# Altium footprint library 110-00315-D_B1-DevKit.PcbLib: 70 footprints (part 1 of 5)
Each footprint in its own frame and in the unit in brackets; x right, y up, seen from the top. Pads: shape width x height; smd on the part's side, far side on the other; paste and mask are expansions set on the pad; w line width, h text height; cw(c..) or ccw(c..) is an arc to the next point about the centre after c.
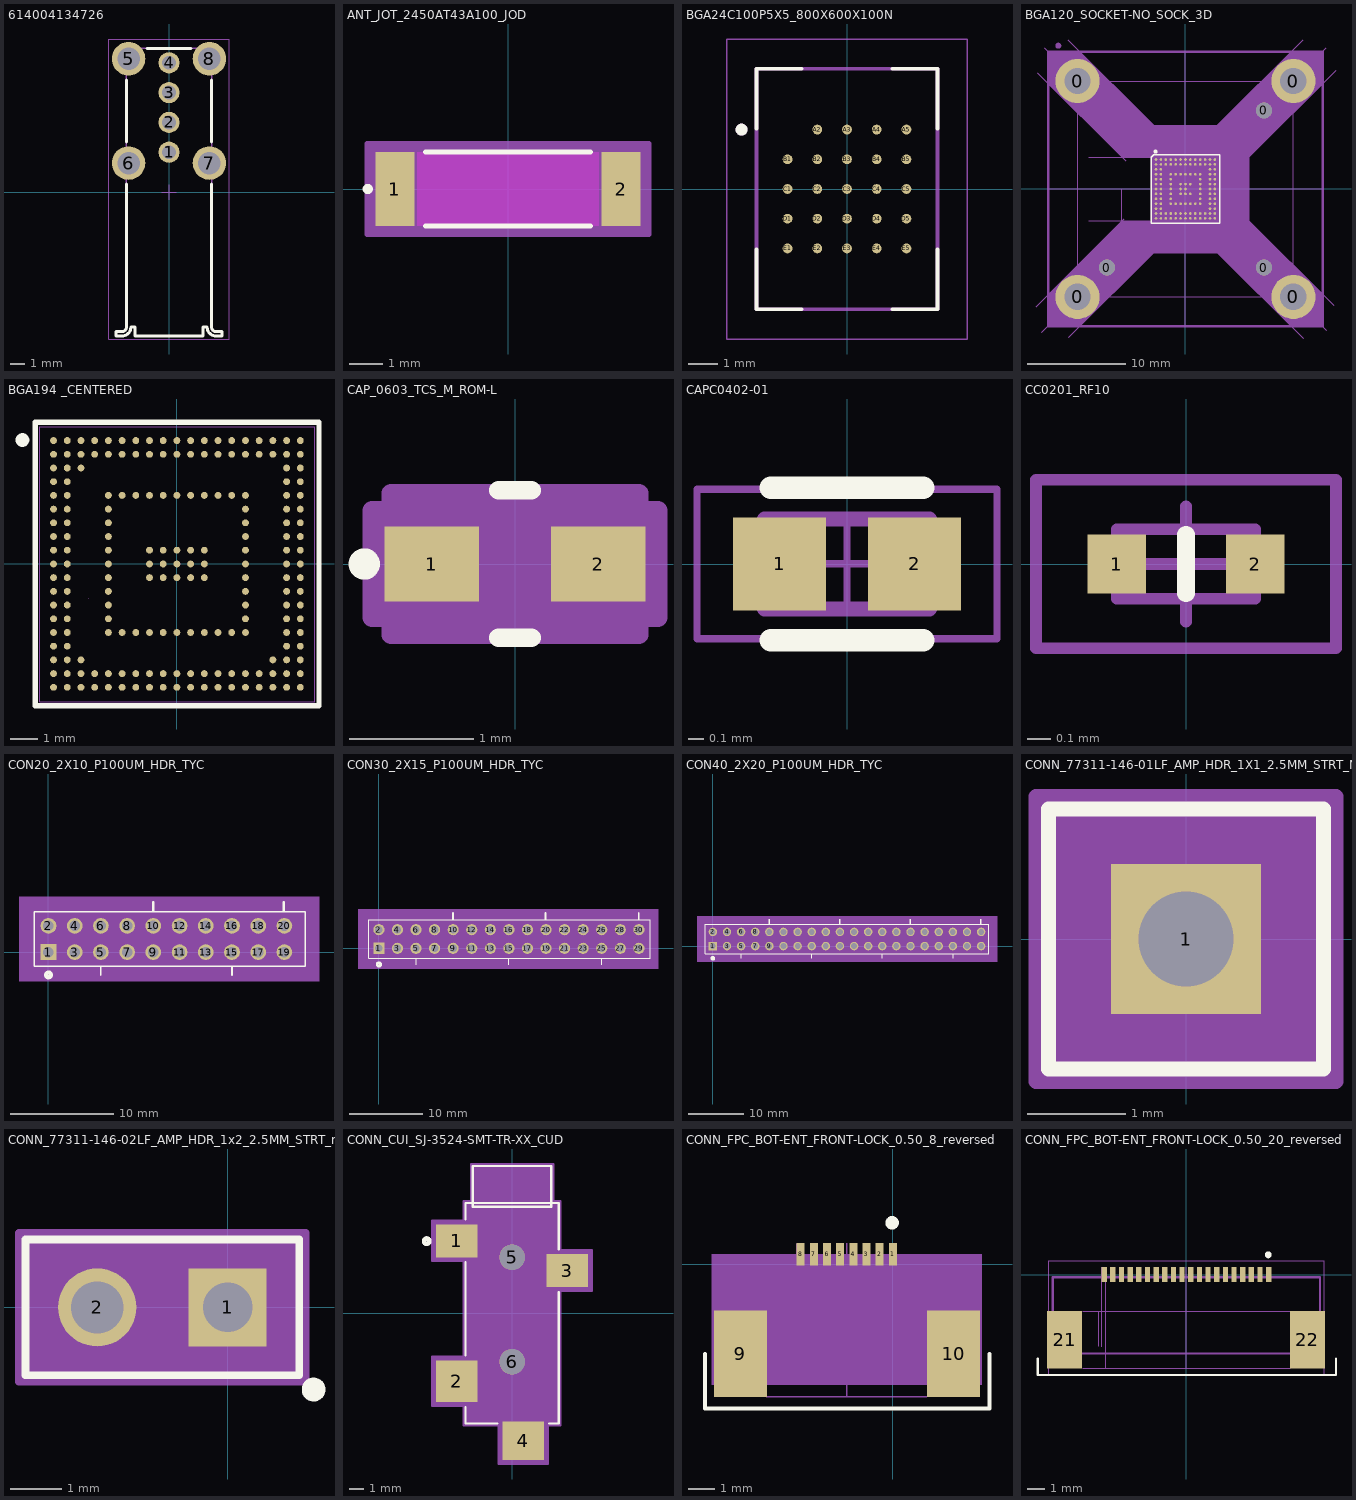
[diagram p0: the footprints below, top view; thin cyan lines are the x and y axes]

## 614004134726 [mm] "USB 2.0 Type A Up Right"
height 14.5
pads (8):
  round 1.42 hole 0.92: 1(0,2.68) 2(0,4.68) 3(0,6.68) 4(0,8.68)
  round 2.25 hole 1.5: 5(-2.71,8.95) 6(-2.71,1.95) 7(2.71,1.95) 8(2.71,8.95)
Top Overlay:
  lines w0.2: -2.86,0.54 -2.86,-9.06 cw(c-3.15,-9.06) -3.15,-9.35 -3.55,-9.35 -3.55,-9.65 -3.15,-9.65 ccw(c-3.15,-9.06) -2.56,-9.06 -2.27,-9.06 -2.27,-9.65 2.27,-9.65 2.27,-9.06 2.56,-9.06 ccw(c3.15,-9.06) 3.15,-9.65 3.55,-9.65 3.55,-9.35 3.15,-9.35 cw(c3.15,-9.06) 2.86,-9.06 2.86,0.54 ; -2.86,3.36 -2.86,7.54 ; -1.46,9.65 1.49,9.65 ; 2.86,3.36 2.86,7.54
Mechanical 11:
  lines w0.1: -3.55,-9.65 -3.15,-9.65 ccw(c-3.15,-9.06) -2.56,-9.06 -2.27,-9.06 -2.27,-9.65 2.27,-9.65 2.27,-9.06 2.56,-9.06 ccw(c3.15,-9.06) 3.15,-9.65 3.55,-9.65 3.55,-9.35 3.15,-9.35 cw(c3.15,-9.06) 2.86,-9.06 2.86,9.65 -2.86,9.65 -2.86,-9.06 cw(c-3.15,-9.06) -3.15,-9.35 -3.55,-9.35 -3.55,-9.65
  text ".Designator" at -1.75,-0.75 h1.5
Mechanical 13:
  lines w0.1: -3.55,-9.65 -3.55,-9.35 -3.15,-9.35 ccw(c-3.15,-9.06) -2.86,-9.06 -2.86,9.65 2.86,9.65 2.86,-9.06 ccw(c3.15,-9.06) 3.15,-9.35 3.55,-9.35 3.55,-9.65 3.15,-9.65 cw(c3.15,-9.06) 2.56,-9.06 2.27,-9.06 2.27,-9.65 -2.27,-9.65 -2.27,-9.06 -2.56,-9.06 cw(c-3.15,-9.06) -3.15,-9.65 -3.55,-9.65
Mechanical 15:
  lines w0.05: -0.5,0 0.5,0 ; 0,-0.5 0,0.5 ; -4.035,-9.85 4.035,-9.85 4.035,10.275 -4.035,10.275 -4.035,-9.85
3D body "614004134726.stp": height 14.49, standoff -3.82, extent -3.55,-9.65 3.55,9.65

## ANT_JOT_2450AT43A100_JOD [mil]
pads (2):
  rect 46x87 smd paste+0 mask+4: 1(-133,0) 2(133,0)
Top Layer keep-out:
  region: -107,-41.5 -107,41.5 107,41.5 107,-41.5
Top Overlay:
  circle w6: c-165,0 r3
  lines w6: -96.9,-43.5 96.9,-43.5 ; -96.9,43.5 96.9,43.5
Keep-Out Layer:
  region: -107,-43.5 -107,43.5 107,43.5 107,-43.5
Mechanical 13:
  circle w0: c-165,0 r3
  lines w1: -142,-43.5 -142,43.5 ; -142,-43.5 -110,-43.5 -110,43.5 -142,43.5 ; -142,-43.5 142,-43.5 ; -142,-43.5 -142,43.5 ; -142,43.5 142,43.5 ; 142,-43.5 110,-43.5 110,43.5 142,43.5 ; 142,-43.5 142,43.5 ; 142,-43.5 142,43.5
Mechanical 15:
  region: 166,-53.5 -166,-53.5 -166,53.5 166,53.5
  lines w6: -166,-53.5 -166,53.5 166,53.5 166,-53.5 -166,-53.5
3D body "2450AT43A100E.step": height 51.18, standoff 0, extent -137.8,-39.37 137.8,39.37

## BGA24C100P5X5_800X600X100N [mm]
height 8.58
pads (24):
  round 0.33 smd: A2(-1,2) A3(0,2) A4(1,2) A5(2,2) B1(-2,1) B2(-1,1) B3(0,1) B4(1,1) B5(2,1) C1(-2,0) C2(-1,0) C3(0,0) C4(1,0) C5(2,0) D1(-2,-1) D2(-1,-1) D3(0,-1) D4(1,-1) D5(2,-1) E1(-2,-2) E2(-1,-2) E3(0,-2) E4(1,-2) E5(2,-2)
Top Overlay:
  circle w0.2: c-3.55,2 r0.1
  lines w0.127: -3.05,-2.025 -3.05,-4.05 -1.525,-4.05 ; -3.05,2.025 -3.05,4.05 -1.525,4.05 ; 1.525,-4.05 3.05,-4.05 3.05,-2.025 ; 1.525,4.05 3.05,4.05 3.05,2.025
Mechanical 13:
  circle w0.2: c-3.55,2 r0.1
  lines w0.127: -3.05,-4.05 3.05,-4.05 3.05,4.05 -3.05,4.05 -3.05,-4.05
Mechanical 15:
  lines w0.05: -4.05,-5.05 4.05,-5.05 4.05,5.05 -4.05,5.05 -4.05,-5.05
3D body "step_temp.STEP": height 1, standoff 0, extent -3,-4 3,4

## BGA120_SOCKET-NO_SOCK_3D [mil] "Alif E1 / B1 BGA120 with Socket"
pads (127):
  round 177 hole 106: 0(-433,-433) 0(-433,433) 0(433,-433) 0(433,433)
  round 63 hole 63 unplated paste-99999 mask+4: 0(-315,-315) 0(315,-315) 0(315,315)
  round 10.5 smd mask+4: A1(-118.11,118.11) A2(-98.42,118.11) A3(-78.74,118.11) A4(-59.05,118.11) A5(-39.37,118.11) A6(-19.68,118.11) A7(0,118.11) A8(19.68,118.11) A9(39.37,118.11) A10(59.05,118.11) A11(78.74,118.11) A12(98.42,118.11) A13(118.11,118.11) B1(-118.11,98.42) B2(-98.42,98.42) B3(-78.74,98.42) B4(-59.05,98.42) B5(-39.37,98.42) B6(-19.68,98.42) B7(0,98.42) B8(19.68,98.42) B9(39.37,98.42) B10(59.05,98.42) B11(78.74,98.42) B12(98.42,98.42) B13(118.11,98.42) C1(-118.11,78.74) C2(-98.42,78.74) C12(98.42,78.74) C13(118.11,78.74) D1(-118.11,59.05) D2(-98.42,59.05) D4(-59.05,59.05) D5(-39.37,59.05) D6(-19.68,59.05) D7(0,59.05) D8(19.68,59.05) D9(39.37,59.05) D10(59.05,59.05) D12(98.42,59.05) D13(118.11,59.05) E1(-118.11,39.37) E2(-98.42,39.37) E4(-59.05,39.37) E10(59.05,39.37) E12(98.42,39.37) E13(118.11,39.37) F1(-118.11,19.68) F2(-98.42,19.68) F4(-59.05,19.68) F6(-19.68,19.68) F7(0,19.68) F8(19.68,19.68) F10(59.05,19.68) F12(98.42,19.68) F13(118.11,19.68) G1(-118.11,0) G2(-98.42,0) G4(-59.05,0) G6(-19.68,0) G7(0,0) G10(59.05,0) G12(98.42,0) G13(118.11,0) H1(-118.11,-19.68) H2(-98.42,-19.68) H4(-59.05,-19.68) H6(-19.68,-19.68) H7(0,-19.68) H8(19.68,-19.68) H10(59.05,-19.68) H12(98.42,-19.68) H13(118.11,-19.68) J1(-118.11,-39.37) J2(-98.42,-39.37) J4(-59.05,-39.37) J10(59.05,-39.37) J12(98.42,-39.37) J13(118.11,-39.37) K1(-118.11,-59.05) K2(-98.42,-59.05) K4(-59.05,-59.05) K5(-39.37,-59.05) K6(-19.68,-59.05) K7(0,-59.05) K8(19.68,-59.05) K9(39.37,-59.05) K10(59.05,-59.05) K12(98.42,-59.05) K13(118.11,-59.05) L1(-118.11,-78.74) L2(-98.42,-78.74) L12(98.42,-78.74) L13(118.11,-78.74) M1(-118.11,-98.42) M2(-98.42,-98.42) M3(-78.74,-98.42) M4(-59.05,-98.42) M5(-39.37,-98.42) M6(-19.68,-98.42) M7(0,-98.42) M8(19.68,-98.42) M9(39.37,-98.42) M10(59.05,-98.42) M11(78.74,-98.42) M12(98.42,-98.42) M13(118.11,-98.42) N1(-118.11,-118.11) N2(-98.42,-118.11) N3(-78.74,-118.11) N4(-59.05,-118.11) N5(-39.37,-118.11) N6(-19.68,-118.11) N7(0,-118.11) N8(19.68,-118.11) N9(39.37,-118.11) N10(59.05,-118.11) N11(78.74,-118.11) N12(98.42,-118.11) N13(118.11,-118.11)
Top Overlay:
  lines w6: -137.79,-137.79 137.79,-137.79 137.79,137.79 -127.95,137.79 -137.79,127.95 -137.79,-137.79
  lines w12: -117.82,149.95 cw(c-120,150) -117.82,150.12
Mechanical 1:
  circle w12: c-510,574.6 r6.11
  region: 128.5,256.1 128.1,255.7 -128.1,255.7 -425.3,552.9 -427.3,550.9 -551.1,550.9 -551.1,423.6 -551.3,423.4 -550.7,423.4 -255.1,127.8 -137.6,127.8 -137.6,-128 -255.5,-128 -551.1,-423.6 -551.1,-550.7 -550.5,-551.3 -423.7,-551.3 -128.7,-256.3 128.7,-256.3 423.4,-551 423.4,-551.5 550,-551.5 551.2,-550.3 551.2,-423 255.6,-127.4 255.6,130 550.4,424.8 549.4,425.8 549.4,550 422.2,550
  lines w10: -551,-551 -551,551 551,551 551,-551 -551,-551
Top Assembly:
  lines w1: -551,0 0,0 ; -388,-128 -138,-128 -138,0 -138,128 -388,128 ; -256,-128 -256,0 ; -128,-256 0,-256 128,-256 ; -128,256 0,256 128,256 ; 0,-551.1 0,0 ; 0,-0.1 0,551 ; 256,-128 256,0 256,128 ; 551,0 0,0 ; -433,-433 0,-433 433,-433 433,0 433,433 0,433 -433,433 -433,0 -433,-433
  lines w2: -599.5,-472.2 -245.95,-118.65 ; -593.7,466.4 -240.15,112.85 ; -575.49,-575.69 0,0 ; -565.6,565.5 0,0 ; -496.03,-370.27 -433.1,-433.2 ; -471.2,598.6 -117.65,245.05 ; -467.3,-594.7 -113.75,-241.15 ; 118.1,245.4 471.65,598.95 ; 118.3,-245.6 471.85,-599.15 ; 143.26,269.33 206.2,206.4 ; 240.8,-113.4 594.35,-466.95 ; 250.3,122.9 603.85,476.45 ; 565.69,-565.69 0,0 ; 565.69,565.69 0,0
3D body: height 22.09, standoff 0, extent -130.05,-129.53 129.85,130.53
3D body: height 23, standoff 0, extent -123.6,110.9 -111.6,122.9

## BGA194 _CENTERED [mm]
pads (194):
  round 0.25 smd: A1(-4.501,4.501) A2(-4.001,4.501) A3(-3.501,4.501) A4(-3.001,4.501) A5(-2.501,4.501) A6(-2.001,4.501) A7(-1.501,4.501) A8(-1.001,4.501) A9(-0.501,4.501) A10(-0.001,4.501) A11(0.499,4.501) A12(0.999,4.501) A13(1.499,4.501) A14(1.999,4.501) A15(2.499,4.501) A16(2.999,4.501) A17(3.499,4.501) A18(3.999,4.501) A19(4.499,4.501) B1(-4.501,4.001) B2(-4.001,4.001) B3(-3.501,4.001) B4(-3.001,4.001) B5(-2.501,4.001) B6(-2.001,4.001) B7(-1.501,4.001) B8(-1.001,4.001) B9(-0.501,4.001) B10(-0.001,4.001) B11(0.499,4.001) B12(0.999,4.001) B13(1.499,4.001) B14(1.999,4.001) B15(2.499,4.001) B16(2.999,4.001) B17(3.499,4.001) B18(3.999,4.001) B19(4.499,4.001) C1(-4.501,3.501) C2(-4.001,3.501) C3(-3.501,3.501) C18(3.999,3.501) C19(4.499,3.501) D1(-4.501,3.001) D2(-4.001,3.001) D18(3.999,3.001) D19(4.499,3.001) E1(-4.501,2.501) E2(-4.001,2.501) E5(-2.501,2.501) E6(-2.001,2.501) E7(-1.501,2.501) E8(-1.001,2.501) E9(-0.501,2.501) E10(-0.001,2.501) E11(0.499,2.501) E12(0.999,2.501) E13(1.499,2.501) E14(1.999,2.501) E15(2.499,2.501) E18(3.999,2.501) E19(4.499,2.501) F1(-4.501,2.001) F2(-4.001,2.001) F5(-2.501,2.001) F15(2.499,2.001) F18(3.999,2.001) F19(4.499,2.001) G1(-4.501,1.501) G2(-4.001,1.501) G5(-2.501,1.501) G15(2.499,1.501) G18(3.999,1.501) G19(4.499,1.501) H1(-4.501,1.001) H2(-4.001,1.001) H5(-2.501,1.001) H15(2.499,1.001) H18(3.999,1.001) H19(4.499,1.001) J1(-4.501,0.501) J2(-4.001,0.501) J5(-2.501,0.501) J8(-1.001,0.501) J9(-0.501,0.501) J10(-0.001,0.501) J11(0.499,0.501) J12(0.999,0.501) J15(2.499,0.501) J18(3.999,0.501) J19(4.499,0.501) K1(-4.501,0.001) K2(-4.001,0.001) K5(-2.501,0.001) K8(-1.001,0.001) K9(-0.501,0.001) K10(-0.001,0.001) K11(0.499,0.001) K12(0.999,0.001) K15(2.499,0.001) K18(3.999,0.001) K19(4.499,0.001) L1(-4.501,-0.499) L2(-4.001,-0.499) L5(-2.501,-0.499) L8(-1.001,-0.499) L9(-0.501,-0.499) L10(-0.001,-0.499) L11(0.499,-0.499) L12(0.999,-0.499) L15(2.499,-0.499) L18(3.999,-0.499) L19(4.499,-0.499) M1(-4.501,-0.999) M2(-4.001,-0.999) M5(-2.501,-0.999) M15(2.499,-0.999) M18(3.999,-0.999) M19(4.499,-0.999) N1(-4.501,-1.499) N2(-4.001,-1.499) N5(-2.501,-1.499) N15(2.499,-1.499) N18(3.999,-1.499) N19(4.499,-1.499) P1(-4.501,-1.999) P2(-4.001,-1.999) P5(-2.501,-1.999) P15(2.499,-1.999) P18(3.999,-1.999) P19(4.499,-1.999) R1(-4.501,-2.499) R2(-4.001,-2.499) R5(-2.501,-2.499) R6(-2.001,-2.499) R7(-1.501,-2.499) R8(-1.001,-2.499) R9(-0.501,-2.499) R10(-0.001,-2.499) R11(0.499,-2.499) R12(0.999,-2.499) R13(1.499,-2.499) R14(1.999,-2.499) R15(2.499,-2.499) R18(3.999,-2.499) R19(4.499,-2.499) T1(-4.501,-2.999) T2(-4.001,-2.999) T18(3.999,-2.999) T19(4.499,-2.999) U1(-4.501,-3.499) U2(-4.001,-3.499) U3(-3.501,-3.499) U17(3.499,-3.499) U18(3.999,-3.499) U19(4.499,-3.499) V1(-4.501,-3.999) V2(-4.001,-3.999) V3(-3.501,-3.999) V4(-3.001,-3.999) V5(-2.501,-3.999) V6(-2.001,-3.999) V7(-1.501,-3.999) V8(-1.001,-3.999) V9(-0.501,-3.999) V10(-0.001,-3.999) V11(0.499,-3.999) V12(0.999,-3.999) V13(1.499,-3.999) V14(1.999,-3.999) V15(2.499,-3.999) V16(2.999,-3.999) V17(3.499,-3.999) V18(3.999,-3.999) V19(4.499,-3.999) W1(-4.501,-4.499) W2(-4.001,-4.499) W3(-3.501,-4.499) W4(-3.001,-4.499) W5(-2.501,-4.499) W6(-2.001,-4.499) W7(-1.501,-4.499) W8(-1.001,-4.499) W9(-0.501,-4.499) W10(-0.001,-4.499) W11(0.499,-4.499) W12(0.999,-4.499) W13(1.499,-4.499) W14(1.999,-4.499) W15(2.499,-4.499) W16(2.999,-4.499) W17(3.499,-4.499) W18(3.999,-4.499) W19(4.499,-4.499)
Top Overlay:
  circle w0.254: c-5.636,4.521 r0.125
  lines w0.2: -5.161,-5.169 -5.161,5.166 5.182,5.166 5.182,-5.169 -5.161,-5.169
Mechanical 1:
  region: -3.18,-1.236 -3.175,-1.236 -3.175,-1.24 -3.18,-1.24
  region: -3.171,-1.232 -3.171,-1.227 -3.162,-1.227 -3.162,-1.232 -3.167,-1.232
  region: -3.175,-1.232 -3.171,-1.232 -3.171,-1.236 -3.175,-1.236
  region: -0.892,-0.886 -0.888,-0.886 -0.888,-0.89 -0.892,-0.89
  region: -3.231,-1.262 -3.231,-1.258 -3.227,-1.258 -3.227,-1.262
  region: -3.24,-1.262 -3.235,-1.262 -3.235,-1.267 -3.24,-1.267
  region: -1.302,0.312 -1.307,0.312 -1.307,0.316 -1.302,0.316
  lines w0.025: -5.011,-5.022 5.022,-5.022 5.022,5.011 -5.011,5.011 -5.011,-5.022
3D body: height 0.91, standoff 0, extent -4.757,4.247 -4.249,4.755
3D body: height 0.89, standoff 0.25, extent -4.983,-4.986 4.991,4.992
3D body: height 0.25, standoff 0, extent -5.014,-5.022 5.019,5.018

## CAP_0603_TCS_M_ROM-L [mil]
pads (2):
  rect 30x24 smd paste+0 mask+0: 1(-26.5,0) 2(26.5,0)
Top Overlay:
  circle w6: c-48,0 r2
  lines w6: -5.23,-23.5 5.23,-23.5 ; -5.23,23.5 5.23,23.5
Mechanical 13:
  circle w0: c-26.5,0 r3
  lines w1: -35.5,-18.5 35.5,-18.5 35.5,18.5 -35.5,18.5 -35.5,-18.5 ; -35.5,-13 -35.5,13 -35.5,-13 ; 35.5,-13 35.5,13 35.5,-13
Mechanical 15:
  region: -39.5,-17 -45.5,-17 -45.5,17 -39.5,17 -39.5,22.5 39.5,22.5 39.5,17 45.5,17 45.5,-17 39.5,-17 39.5,-22.5 -39.5,-22.5
  lines w6: -45.5,-17 -45.5,17 -39.5,17 -39.5,22.5 39.5,22.5 39.5,17 45.5,17 45.5,-17 39.5,-17 39.5,-22.5 -39.5,-22.5 -39.5,-17 -45.5,-17
3D body "CAP_TCS_M_ROM.step": height 39.09, standoff 0, extent -35.51,-18.5 35.51,18.5

## CAPC0402-01 [mm] "Chip Capacitor, Body 1.0x0.5mm, Height 0.6mm, IPC Medium Density"
height 0.6
pads (2):
  rect 0.62x0.62 smd: 1(-0.45,0) 2(0.45,0)
Top Overlay:
  lines w0.152: -0.508,-0.508 0.508,-0.508 ; -0.508,0.508 0.508,0.508
Top 3D Body:
  lines w0.1: -0.55,-0.3 0.55,-0.3 0.55,0.3 -0.55,0.3 -0.55,-0.3
Top Courtyard:
  lines w0.05: -0.3,0 0.3,0 ; 0,-0.3 0,0.3 ; -1,-0.5 1,-0.5 1,0.5 -1,0.5 -1,-0.5
3D body: height 0.6, standoff 0, extent 0.3,-0.3 0.55,0.3
3D body: height 0.6, standoff 0, extent -0.55,-0.3 -0.3,0.3
3D body: height 0.6, standoff 0, extent -0.3,-0.3 0.3,0.3

## CC0201_RF10 [mil] "SMD Multilayer Ceramic Inductor, body 0.60x0.30mm"
height 12.99
pads (2):
  rect 10x10 smd: 1(-11.81,0) 2(11.81,0)
Top Overlay:
  lines w3: 0,-5 0,5
Top 3D Body:
  lines w1.97: -11.81,-5.91 11.81,-5.91 11.81,5.91 -11.81,5.91 -11.81,-5.91
Top Courtyard:
  lines w1.97: -9.84,0 9.84,0 ; 0,-9.84 0,9.84 ; -25.59,-14.37 -25.59,14.37 25.59,14.37 25.59,-14.37 -25.59,-14.37
3D body: height 12.99, standoff 0, extent 6,-5 11.91,5
3D body: height 12.99, standoff 0, extent -11.91,-5 -6,5
3D body: height 12.99, standoff 0, extent -7,-5 5.99,5

## CON20_2X10_P100UM_HDR_TYC [mil]
height 337.8
pads (20):
  rect 60x60 hole 40 mask+0: 1(0,0)
  round 60 hole 40 mask+0: 2(0,100) 3(100,0) 4(100,100) 5(200,0) 6(200,100) 7(300,0) 8(300,100) 9(400,0) 10(400,100) 11(500,0) 12(500,100) 13(600,0) 14(600,100) 15(700,0) 16(700,100) 17(800,0) 18(800,100) 19(900,0) 20(900,100)
Top Overlay:
  circle w15: c0,-87 r9.22
  lines w6: 200,-88 200,-54 ; 700,-88 700,-54 ; -55,-53.5 979,-53.5 979,153.5 -55,153.5 -55,-53.5
  lines w10: 399,156 399,190 ; 898,156 898,190
Mechanical 5:
  region: 1032,-111 -112.5,-111 -112.5,211 1032,211
Mechanical 13:
  lines w1: -50,-48.5 973,-48.5 973,148.5 -50,148.5 ; -50,-48.5 -50,148.5 ; -50,-48.5 -40,-48.5 -40,148.5 -50,148.5
Mechanical 15:
  region: 973,158.5 -60,158.5 -60,-58.5 973,-58.5
  lines w6: -60,-58.5 973,-58.5 973,158.5 -60,158.5 -60,-58.5
3D body "PRPC010DFAN-RC.STEP": height 399.98, standoff -135.83, extent -39,-53 961,147

## CON30_2X15_P100UM_HDR_TYC [mil]
height 337.8
pads (30):
  rect 60x60 hole 40 mask+0: 1(0,0)
  round 60 hole 40 mask+0: 2(0,100) 3(100,0) 4(100,100) 5(200,0) 6(200,100) 7(300,0) 8(300,100) 9(400,0) 10(400,100) 11(500,0) 12(500,100) 13(600,0) 14(600,100) 15(700,0) 16(700,100) 17(800,0) 18(800,100) 19(900,0) 20(900,100) 21(1000,0) 22(1000,100) 23(1100,0) 24(1100,100) 25(1200,0) 26(1200,100) 27(1300,0) 28(1300,100) 29(1400,0) 30(1400,100)
Top Overlay:
  circle w15: c0,-87 r9.22
  lines w6: 200,-88 200,-54 ; 700,-88 700,-54 ; 1200,-88 1200,-54 ; -55,-53.5 1461,-53.5 1461,153.5 -55,153.5 -55,-53.5
  lines w10: 399,156 399,190 ; 898,156 898,190 ; 1399,156 1399,190
Mechanical 5:
  region: 1503,-111 -112.5,-111 -112.5,211 1503,211
Mechanical 13:
  lines w1: -50,-48.5 -40,-48.5 -40,148.5 -50,148.5 ; -50,-48.5 1457,-48.5 1457,148.5 -50,148.5 ; -50,-48.5 -50,148.5
Mechanical 15:
  region: 1469,158.5 -60,158.5 -60,-58.5 1469,-58.5
  lines w6: -60,-58.5 -60,158.5 1465,158.5 1465,-58.5 -60,-58.5
3D body "PRPC015DFAN-RC.STEP": height 399.98, standoff -135.83, extent -49,-51 1451,149

## CON40_2X20_P100UM_HDR_TYC [mil]
height 337.8
pads (40):
  rect 60x60 hole 40 mask+0: 1(0,0)
  round 60 hole 40 mask+0: 2(0,100) 3(100,0) 4(100,100) 5(200,0) 6(200,100) 7(300,0) 8(300,100) 9(400,0) 10(400,100) 11(500,0) 12(500,100) 13(600,0) 14(600,100) 15(700,0) 16(700,100) 17(800,0) 18(800,100) 19(900,0) 20(900,100) 21(1000,0) 22(1000,100) 23(1100,0) 24(1100,100) 25(1200,0) 26(1200,100) 27(1300,0) 28(1300,100) 29(1400,0) 30(1400,100) 31(1500,0) 32(1500,100) 33(1600,0) 34(1600,100) 35(1700,0) 36(1700,100) 37(1800,0) 38(1800,100) 39(1900,0) 40(1900,100)
Top Overlay:
  circle w15: c0,-87 r9.22
  lines w6: 200,-88 200,-54 ; 700,-88 700,-54 ; 1200,-88 1200,-54 ; 1702,-88 1702,-54 ; -55,-53.5 -55,153.5 1955,153.5 1955,-53.5 -55,-53.5
  lines w10: 399,156 399,190 ; 898,156 898,190 ; 1399,156 1399,190 ; 1899,156 1899,190
Mechanical 5:
  region: 2012.5,-111 -112.5,-111 -112.5,211 2012.5,211
Mechanical 13:
  lines w1: -50,-48.5 -50,148.5 ; -50,-48.5 1950,-48.5 1950,148.5 -50,148.5 ; -50,-48.5 -40,-48.5 -40,148.5 -50,148.5
Mechanical 15:
  region: 1960,158.5 -60,158.5 -60,-58.5 1960,-58.5
  lines w6: -60,-58.5 1960,-58.5 1960,158.5 -60,158.5 -60,-58.5
3D body "CON40_2X20_P100UM_HDR_TYC.step": height 374.02, standoff -200, extent -40,-50 1960,150

## CONN_77311-146-01LF_AMP_HDR_1X1_2.5MM_STRT_No3D [mil]
height 337.8
pads (1):
  rect 60x60 hole 38 mask+0: 1(0,0)
Top Overlay:
  lines w6: -55,-52 55,-52 55,52 -55,52 -55,-52
Mechanical 5:
  region: 57.5,-54.5 -57.5,-54.5 -57.5,54.5 57.5,54.5
Mechanical 13:
  circle w0: c0,-32 r10
  lines w1: -50,-47 50,-47 50,47 -50,47 -50,-47
Mechanical 15:
  region: 60,57 -60,57 -60,-57 60,-57
  lines w6: -60,-57 -60,57 60,57 60,-57 -60,-57

## CONN_77311-146-02LF_AMP_HDR_1x2_2.5MM_STRT_no#D [mil]
pads (2):
  rect 60x60 hole 38 mask+0: 1(0,0)
  round 60 hole 40 mask+0: 2(-100,0)
Top Overlay:
  circle w10: c66,-63 r4.12
  lines w6: -155,-52 -155,52 55,52 55,-52 -155,-52
Mechanical 5:
  region: 57.5,-54.5 -157.5,-54.5 -157.5,54.5 57.5,54.5
Mechanical 13:
  circle w0: c0,-32 r10
  lines w1: -150,-47 -150,47 50,47 50,-47 -150,-47
Mechanical 15:
  region: 60,57 -160,57 -160,-57 60,-57
  lines w6: -160,-57 60,-57 60,57 -160,57 -160,-57

## CONN_CUI_SJ-3524-SMT-TR-XX_CUD [mil]
pads (6):
  rect 110x87 smd paste+0: 1(-145.7,191) 3(145.7,112.3)
  rect 110x110 smd: 2(-145.7,-179.1)
  rect 110x102 smd paste+0: 4(29.5,-336.5)
  round 67 / inner round 60 / far side round 67 hole 67 unplated paste-99999 mask-33.5: 5(0,147.7) 6(0,-127.9)
Top Overlay:
  circle w12: c-225,190 r7.07
  lines w6: -123,-247.2 -123,-290.5 -38.6,-290.5 ; -123,-111 -123,134.4 ; -123,247.6 -123,290.5 123,290.5 123,168.9 ; 97.6,-290.5 123,-290.5 123,55.7 ; -103.5,280.5 103.5,280.5 103.5,388.5 -103.5,388.5 -103.5,280.5
Mechanical 13:
  lines w1: -118,-208.6 -177,-208.6 -177,-149.6 -118,-149.6 ; -118,171.5 -177,171.5 -177,210.5 -118,210.5 ; 0,-285.5 0,-364.5 59,-364.5 59,-285.5 ; 118,92.8 177,92.8 177,131.8 118,131.8 ; -118,-285.5 118,-285.5 118,285.5 -118,285.5 -118,-285.5 ; -98.5,285.5 98.5,285.5 98.5,383.5 -98.5,383.5 -98.5,285.5
Mechanical 15:
  region: 210.7,58.8 210.7,165.8 128,165.8 128,295.5 108.5,295.5 108.5,393.5 -108.5,393.5 -108.5,295.5 -128,295.5 -128,244.5 -210.7,244.5 -210.7,137.5 -128,137.5 -128,-114.1 -210.7,-114.1 -210.7,-244.1 -128,-244.1 -128,-295.5 -35.5,-295.5 -35.5,-397.5 94.5,-397.5 94.5,-295.5 128,-295.5 128,58.8
  lines w6: -210.7,-244.1 -210.7,-114.1 -128,-114.1 -128,137.5 -210.7,137.5 -210.7,244.5 -128,244.5 -128,295.5 -108.5,295.5 -108.5,393.5 108.5,393.5 108.5,295.5 128,295.5 128,165.8 210.7,165.8 210.7,58.8 128,58.8 128,-295.5 94.5,-295.5 94.5,-397.5 -35.5,-397.5 -35.5,-295.5 -128,-295.5 -128,-244.1 -210.7,-244.1
3D body "CUI_DEVICES_SJ-3524-SMT-TR-BE.step": height 201.43, standoff -26.92, extent -175,-364.02 179.33,384.02

## CONN_FPC_BOT-ENT_FRONT-LOCK_0.50_8_reversed [mil] "HiRose FH52E-8S-0.5SH (Reversed Pin Order)"
height 337.8
pads (10):
  rect 12x34 smd paste+0 mask+4: 1(0,15) 2(-19.68,15) 3(-39.37,15) 4(-59.06,15) 5(-78.74,15) 6(-98.43,15) 7(-118.11,15) 8(-137.8,15)
  rect 79x130 smd: 9(-228,-134) 10(91,-134)
Top Overlay:
  circle w10: c-1,62 r5.1
  lines w6: -281,-134.56 -281,-216 145,-216 145,-134.56
Mechanical 1:
  lines w2: -189,-198.5 -69,-198.5 51,-198.5 ; -189,-69.5 -69,-69.5 ; -153,-150 -153,-71 ; -144,-150 -144,31 ; -69,-199 -69,31.5 ; -68,-69.5 52,-69.5
Mechanical 5:
  region: -270.9,15 133.1,15 133.1,-180 -270.9,-180
Mechanical 13:
  lines w1: -255.9,-165 -255.9,0 118.1,0 118.1,-165 -255.9,-165
Mechanical 15:
  region: 118.1,0 -255.9,0 -255.9,-165 118.1,-165
  region: 128.1,10 -265.9,10 -265.9,-175 128.1,-175
  lines w6: -265.9,-175 128.1,-175 128.1,10 -265.9,10 -265.9,-175
3D body "FH52E-8S-0.5SH.stp": height 78.74, standoff 0, extent -247.13,-207.39 111.13,18.98
3D body: height 10, standoff 0, extent 0,0 10,10

## CONN_FPC_BOT-ENT_FRONT-LOCK_0.50_20_reversed [mil] "HiRose HiRose FH52-20S-0.5SH Pin Order Reversed"
height 337.8
pads (22):
  rect 12x34 smd: 1(187.01,0) 2(167.32,0) 3(147.64,0) 4(127.95,0) 5(108.27,0) 6(88.58,0) 7(68.9,0) 8(49.21,0) 9(29.53,0) 10(9.84,0) 11(-9.84,0) 12(-29.53,0) 13(-49.21,0) 14(-68.9,0) 15(-88.58,0) 16(-108.27,0) 17(-127.95,0) 18(-147.64,0) 19(-167.32,0) 20(-187.01,0)
  rect 79x130 smd: 21(-277,-148) 22(275,-148)
Top Overlay:
  circle w7.87: c186,45 r3.94
  lines w5: -338,-190.73 -338,-228.13 338,-228.13 ; 340,-228.13 340,-190.6
Mechanical 13:
  lines w5: -303.74,-179.13 -303.74,-5.91 303.74,-5.91 303.74,-179.13 -303.74,-179.13
Mechanical 15:
  lines w1: -236,-213 0,-213 ; -236,-83 0,-83 236,-83 ; -199,-163 -199,-84 ; -193,-164 -193,17 ; -183,-214 -183,-17 ; 0,17 0,-213 ; 236,-213 0,-213
  lines w1.97: -313.58,-227 313.58,-227 313.58,31.5 -313.58,31.5 -313.58,-227
3D body "FH52-20S-0.5SH.stp": height 78.74, standoff 0, extent -280.5,-218.41 282.5,6